# Altium footprint library RS09-N-30 xxx, L-xxx.PcbLib: 1 footprints
Each footprint in its own frame and in the unit in brackets; x right, y up, seen from the top. Pads: shape width x height; smd on the part's side, far side on the other; paste and mask are expansions set on the pad; w line width, h text height; cw(c..) or ccw(c..) is an arc to the next point about the centre after c.
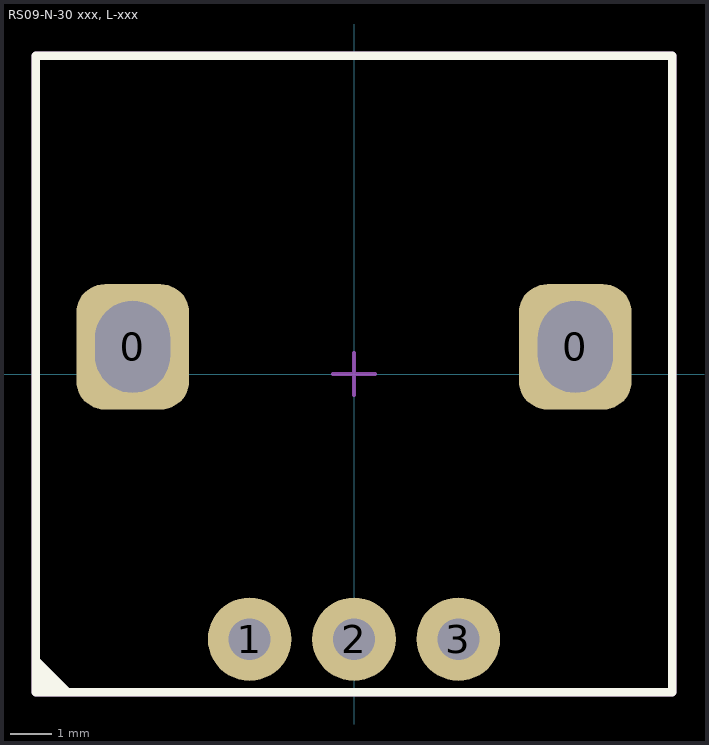
[diagram p0: the footprint, top view; thin cyan lines are the x and y axes]

## RS09-N-30 xxx, L-xxx [mm] "Potentiometer"
height 5
pads (5):
  rrect50% 2.7x3 hole 1.8 slot 2.2 at 90 deg: 0(-5.3,0.65) 0(5.3,0.65)
  round 2 hole 1: 1(-2.5,-6.35) 2(0,-6.35) 3(2.5,-6.35)
Top Overlay:
  region: -7.62,-7.62 -6.72,-7.62 -7.62,-6.72
  lines w0.2: -7.62,-7.62 7.62,-7.62 7.62,7.62 -7.62,7.62 -7.62,-7.62
Top Component Center:
  lines w0.1: -0.5,0 0.5,0 ; 0,-0.5 0,0.5
Top Assembly:
  lines w0.2: -7.62,-7.62 7.62,-7.62 7.62,7.62 -7.62,7.62 -7.62,-7.62
Top Courtyard:
  lines w0.2: -7.62,-7.62 7.62,-7.62 7.62,7.62 -7.62,7.62 -7.62,-7.62
3D body "RS09.stp": height 29, standoff -4.06, extent -5.571,-6.45 5.571,7.35